# EAGLE library part HV5530PG-G (library Group Electornics Library v80)
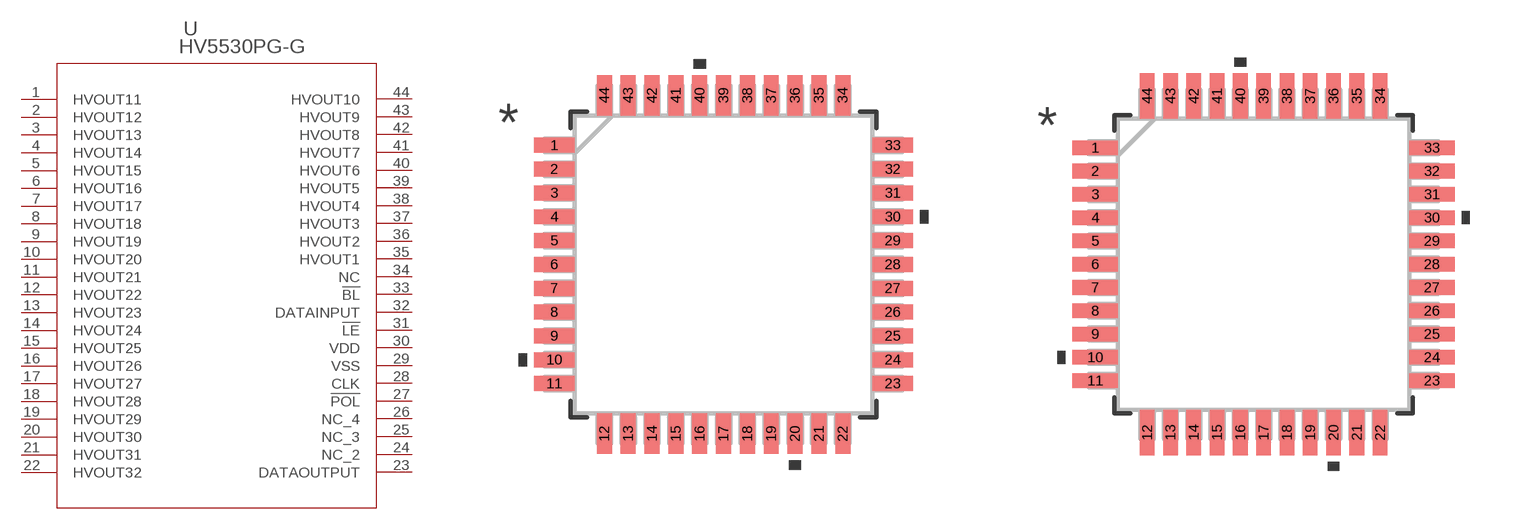
[diagram p1: symbol with the pads of QFP44_10X10MC_MCH; footprints QFP44_10X10MC_MCH, QFP44_10X10MC_MCH-M]

Designator prefix U

## HV5530PG-GQFP44_10X10MC_MCH (COPYRIGHT: Copyright (C) 2024 Ultra Librarian. All rights reserved.; MANUFACTURER_PART_NUMBER: HV5530PG-G; MFR_NAME: Microchip)  [QFP44_10X10MC_MCH]
1  HVOUT11  out
2  HVOUT12  out
3  HVOUT13  out
4  HVOUT14  out
5  HVOUT15  out
6  HVOUT16  out
7  HVOUT17  out
8  HVOUT18  out
9  HVOUT19  out
10  HVOUT20  out
11  HVOUT21  out
12  HVOUT22  out
13  HVOUT23  out
14  HVOUT24  out
15  HVOUT25  out
16  HVOUT26  out
17  HVOUT27  out
18  HVOUT28  out
19  HVOUT29  out
20  HVOUT30  out
21  HVOUT31  out
22  HVOUT32  out
23  DATAOUTPUT  out
24  NC_2  nc
25  NC_3  nc
26  NC_4  nc
27  !POL  pas
28  CLK  in
29  VSS  pwr
30  VDD  pwr
31  !LE  in
32  DATAINPUT  in
33  !BL  pas
34  NC  nc
35  HVOUT1  out
36  HVOUT2  out
37  HVOUT3  out
38  HVOUT4  out
39  HVOUT5  out
40  HVOUT6  out
41  HVOUT7  out
42  HVOUT8  out
43  HVOUT9  out
44  HVOUT10  out

## HV5530PG-GQFP44_10X10MC_MCH-M (COPYRIGHT: Copyright (C) 2024 Ultra Librarian. All rights reserved.; MANUFACTURER_PART_NUMBER: HV5530PG-G; MFR_NAME: Microchip)  [QFP44_10X10MC_MCH-M]
Pads as for QFP44_10X10MC_MCH

## HV5530PG-GQFP44_10X10MC_MCH-L (COPYRIGHT: Copyright (C) 2024 Ultra Librarian. All rights reserved.; MANUFACTURER_PART_NUMBER: HV5530PG-G; MFR_NAME: Microchip)  [QFP44_10X10MC_MCH-L]
Pads as for QFP44_10X10MC_MCH

## Footprint QFP44_10X10MC_MCH (pad centres in mm)
smd 1.356 x 0.501: 1 -5.678,4; 2 -5.678,3.2; 3 -5.678,2.4; 4 -5.678,1.6; 5 -5.678,0.8; 6 -5.678,0; 7 -5.678,-0.8; 8 -5.678,-1.6; 9 -5.678,-2.4; 10 -5.678,-3.2; 11 -5.678,-4; 23 5.678,-4; 24 5.678,-3.2; 25 5.678,-2.4; 26 5.678,-1.6; 27 5.678,-0.8; 28 5.678,0; 29 5.678,0.8; 30 5.678,1.6; 31 5.678,2.4; 32 5.678,3.2; 33 5.678,4
smd 0.501 x 1.356: 12 -4,-5.678; 13 -3.2,-5.678; 14 -2.4,-5.678; 15 -1.6,-5.678; 16 -0.8,-5.678; 17 0,-5.678; 18 0.8,-5.678; 19 1.6,-5.678; 20 2.4,-5.678; 21 3.2,-5.678; 22 4,-5.678; 34 4,5.678; 35 3.2,5.678; 36 2.4,5.678; 37 1.6,5.678; 38 0.8,5.678; 39 0,5.678; 40 -0.8,5.678; 41 -1.6,5.678; 42 -2.4,5.678; 43 -3.2,5.678; 44 -4,5.678

## Footprint QFP44_10X10MC_MCH-M (pad centres in mm)
smd 1.559 x 0.501: 1 -5.779,4; 2 -5.779,3.2; 3 -5.779,2.4; 4 -5.779,1.6; 5 -5.779,0.8; 6 -5.779,0; 7 -5.779,-0.8; 8 -5.779,-1.6; 9 -5.779,-2.4; 10 -5.779,-3.2; 11 -5.779,-4; 23 5.779,-4; 24 5.779,-3.2; 25 5.779,-2.4; 26 5.779,-1.6; 27 5.779,-0.8; 28 5.779,0; 29 5.779,0.8; 30 5.779,1.6; 31 5.779,2.4; 32 5.779,3.2; 33 5.779,4
smd 0.501 x 1.559: 12 -4,-5.779; 13 -3.2,-5.779; 14 -2.4,-5.779; 15 -1.6,-5.779; 16 -0.8,-5.779; 17 0,-5.779; 18 0.8,-5.779; 19 1.6,-5.779; 20 2.4,-5.779; 21 3.2,-5.779; 22 4,-5.779; 34 4,5.779; 35 3.2,5.779; 36 2.4,5.779; 37 1.6,5.779; 38 0.8,5.779; 39 0,5.779; 40 -0.8,5.779; 41 -1.6,5.779; 42 -2.4,5.779; 43 -3.2,5.779; 44 -4,5.779

## Footprint QFP44_10X10MC_MCH-L (pad centres in mm)
smd 1.152 x 0.45: 1 -5.576,4; 2 -5.576,3.2; 3 -5.576,2.4; 4 -5.576,1.6; 5 -5.576,0.8; 6 -5.576,0; 7 -5.576,-0.8; 8 -5.576,-1.6; 9 -5.576,-2.4; 10 -5.576,-3.2; 11 -5.576,-4; 23 5.576,-4; 24 5.576,-3.2; 25 5.576,-2.4; 26 5.576,-1.6; 27 5.576,-0.8; 28 5.576,0; 29 5.576,0.8; 30 5.576,1.6; 31 5.576,2.4; 32 5.576,3.2; 33 5.576,4
smd 0.45 x 1.152: 12 -4,-5.576; 13 -3.2,-5.576; 14 -2.4,-5.576; 15 -1.6,-5.576; 16 -0.8,-5.576; 17 0,-5.576; 18 0.8,-5.576; 19 1.6,-5.576; 20 2.4,-5.576; 21 3.2,-5.576; 22 4,-5.576; 34 4,5.576; 35 3.2,5.576; 36 2.4,5.576; 37 1.6,5.576; 38 0.8,5.576; 39 0,5.576; 40 -0.8,5.576; 41 -1.6,5.576; 42 -2.4,5.576; 43 -3.2,5.576; 44 -4,5.576